# Altium schematic symbol library mylib.SchLib: 2 symbols
Pins are listed as number, name and electrical type; pins without a type are passive.

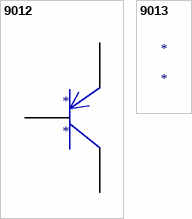
[diagram p0: symbols 9012 to 9013]

## 9012
designator *
pins: 0, 1, 2

## 9013
designator *